# Altium schematic symbol library Actuators.SchLib: 1 symbol
Pins are listed as number, name and electrical type; pins without a type are passive.

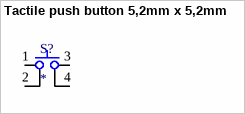
[diagram p0: symbol Tactile push button 5,2mm x 5,2mm]

## Tactile push button 5,2mm x 5,2mm
designator S?
Switch Tactile SPST-NO 5,2mm x 5,2mm
footprint Switch Tactile 5,2mm x 5,2mm (Switch Tactile SPST-NO 5,2mm x 5,2mm)
pins: 1, 2, 3, 4